# EAGLE library part SST25VF020B (library New_Parts_IC-Memory)
2Mbit Serial Flash Memory 8pin SPI Flash Datasheet <http://ww1.microchip.com/downloads/en/DeviceDoc/20005054D.pdf>
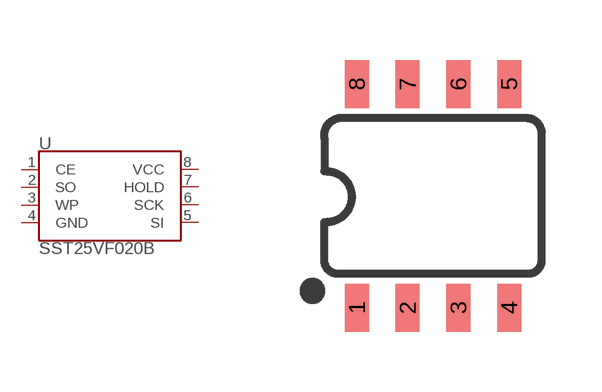
[diagram p0: symbol with the pads of SO08; footprint SO08]

Designator prefix U

## SST25VF020BSMD (DIGIKEY_PART: SST25VF020B-80-4I-SAE-TCT-ND; MANUFACTURER: Microchip; MANU_PART: SST25VF020B-80-4I-SAE-T; MOUSER_PART: 579-25VF020B8ISAET; PROD_ID: IC-15319; VALUE: 2Mbit SPI Flash)  [SO08]
1  CE
2  SO
3  WP
4  GND  pwr
5  SI
6  SCK
7  HOLD
8  VCC  pwr

## Footprint SO08 (pad centres in mm)
SOIC, 0.15 inch width
smd 0.6 x 1.2: 1 -1.905,-2.8; 2 -0.635,-2.8; 3 0.635,-2.8; 4 1.905,-2.8; 5 1.905,2.8; 6 0.635,2.8; 7 -0.635,2.8; 8 -1.905,2.8